# EAGLE library part DS1339 (library adafruit)
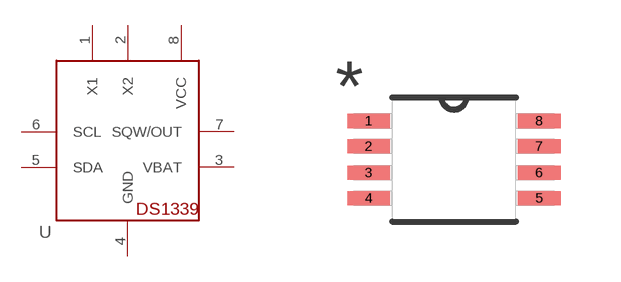
[diagram p122: symbol with the pads of SOPM08; footprint SOPM08]

Designator prefix -

## DS1339  [SOPM08]
1  X1  pas
2  X2  pas
3  VBAT  pwr
4  GND  pwr
5  SDA
6  SCL
7  SQW/OUT
8  VCC  pwr

## Footprint SOPM08 (pad centres in mm)
smd 1.067 x 0.356: 1 -2.134,0.965; 2 -2.134,0.33; 3 -2.134,-0.33; 4 -2.134,-0.965; 5 2.134,-0.965; 6 2.134,-0.33; 7 2.134,0.33; 8 2.134,0.965